# Altium footprint library WURTH WE-HCI 7050.PCBLIB: 1 footprints
Each footprint in its own frame and in the unit in brackets; x right, y up, seen from the top. Pads: shape width x height; smd on the part's side, far side on the other; paste and mask are expansions set on the pad; w line width, h text height; cw(c..) or ccw(c..) is an arc to the next point about the centre after c.
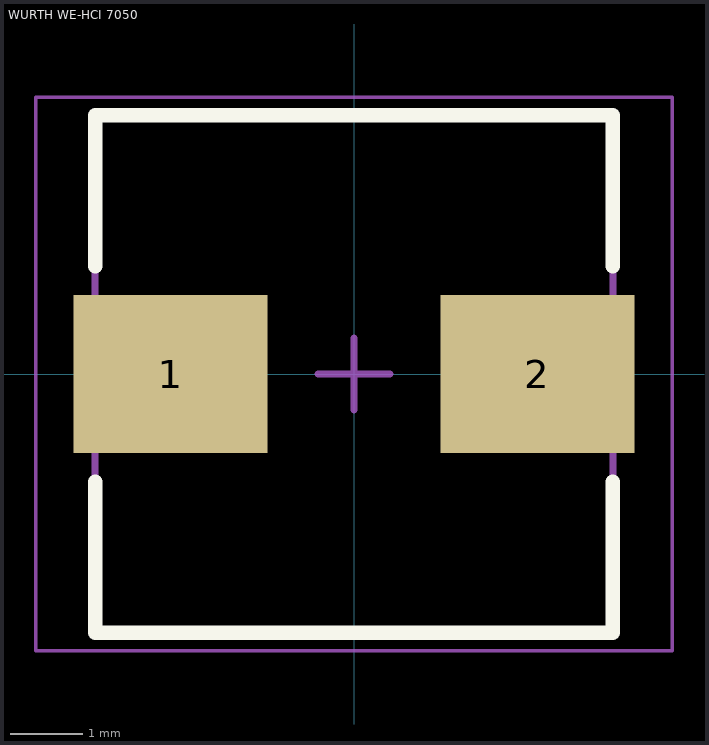
[diagram p0: the footprint, top view; thin cyan lines are the x and y axes]

## WURTH WE-HCI 7050 [mm]
height 5
pads (2):
  rect 2.7x2.2 smd: 1(-2.55,0) 2(2.55,0)
Top Overlay:
  lines w0.2: -3.6,-1.5 -3.6,-3.6 3.6,-3.6 3.6,-1.5 ; -3.6,1.5 -3.6,3.6 3.6,3.6 3.6,1.5
Mechanical 13:
  lines w0.1: -3.6,-3.6 3.6,-3.6 3.6,3.6 -3.6,3.6 -3.6,-3.6
Mechanical 15:
  lines w0.05: -4.425,-3.85 4.425,-3.85 4.425,3.85 -4.425,3.85 -4.425,-3.85
  lines w0.1: -0.5,0 0.5,0 ; 0,-0.5 0,0.5
3D body "WE-HCI 7050.STEP": height 5, standoff 0, extent -3.49,-3.45 3.49,3.45